# Altium integrated library TI Interface Serializer Deserializer.IntLib: 46 symbols (part 1 of 4)
Pins are listed as number, name and electrical type; pins without a type are passive.

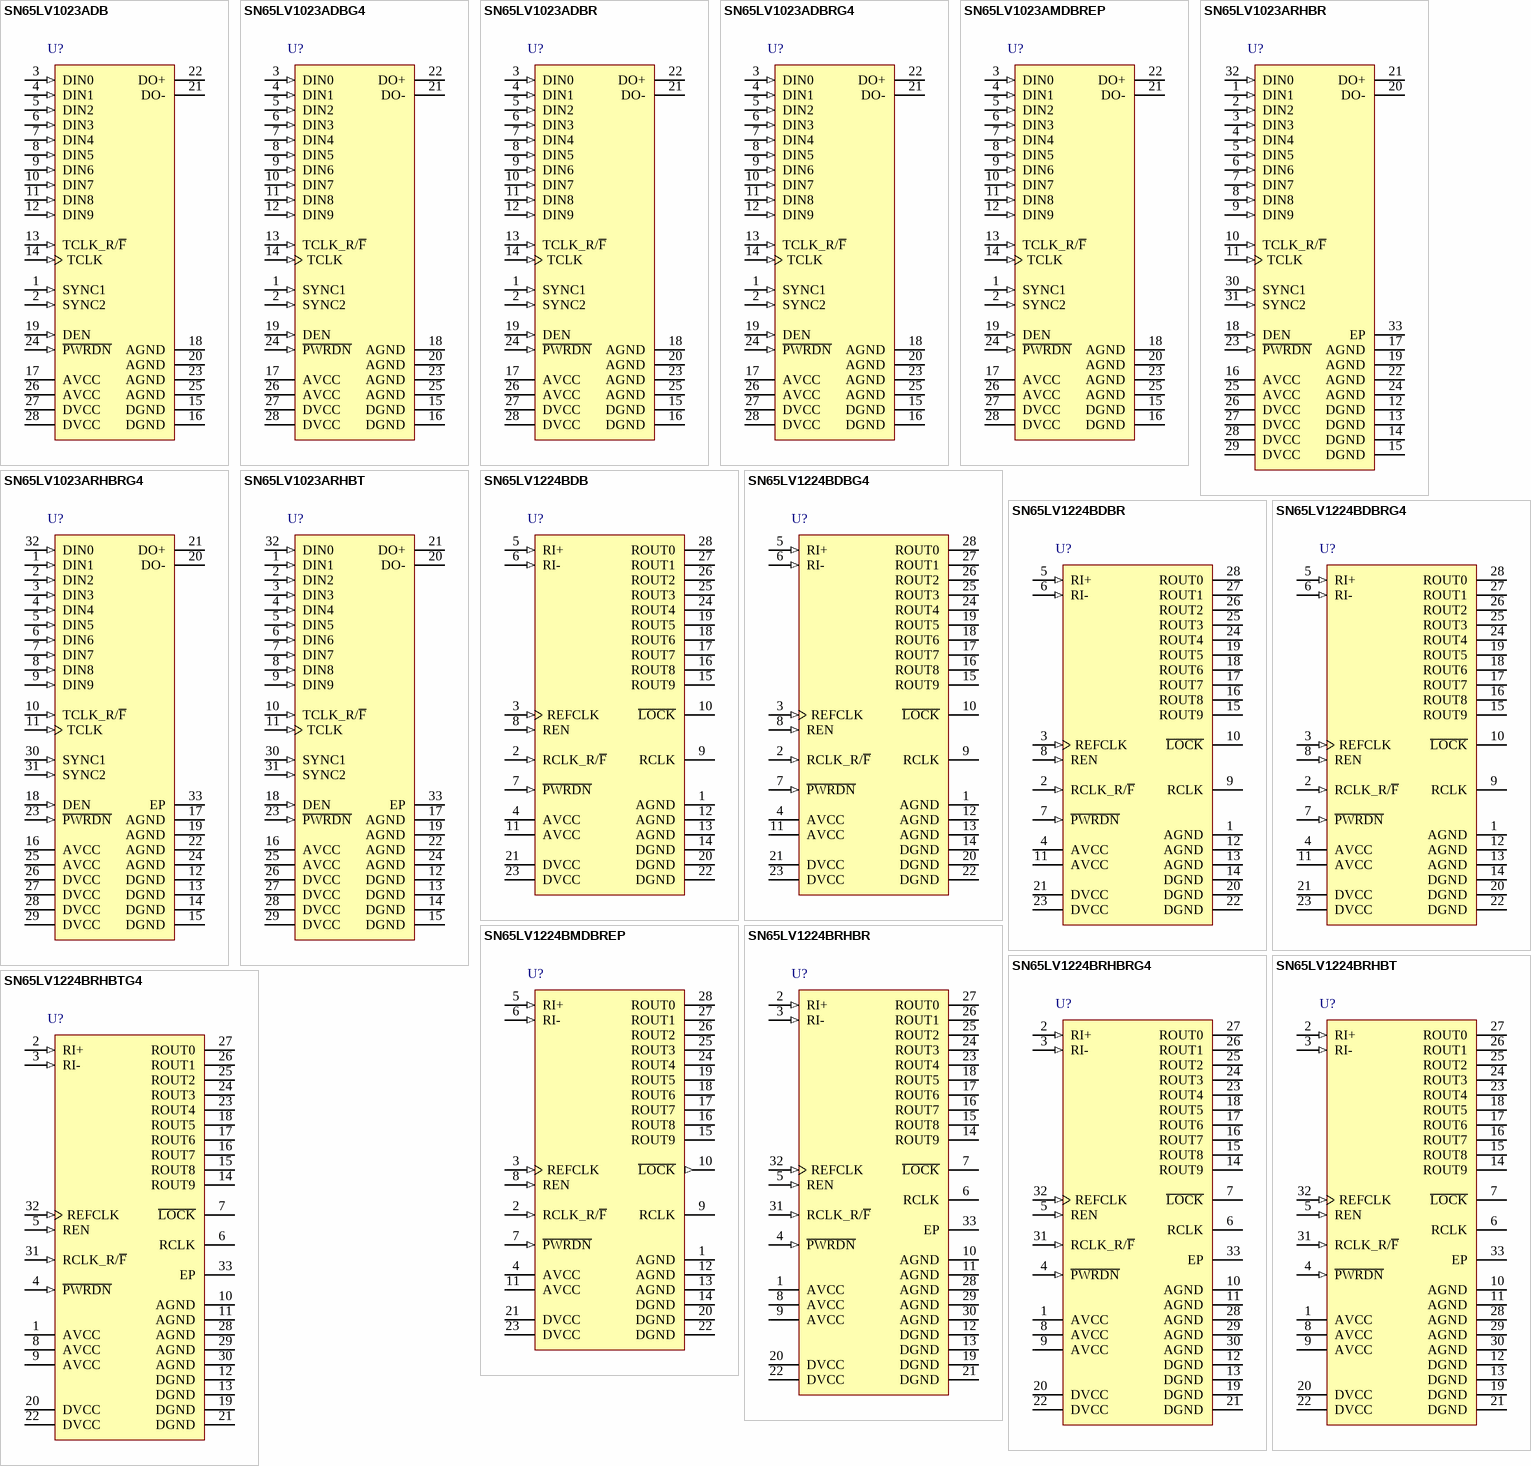
[diagram p0: symbols SN65LV1023ADB to SN65LV1224BRHBTG4]

## SN65LV1023ADB
designator U?
10:1 LVDS Serdes Transmitter 100 - 660 Mbps, 3.3 V, 660 MB/s Data Throughput, Receiver Channels, -40 to+ 85 degC, 28-pin SSOP (DB), Green (RoHS & no Sb/Br); Manufacturer: Texas Instruments; PartNumber: SN65LV1023ADB; Data Throughput(MB/s): 660; ICC(mA): 95; Number of Parallel Inputs: 10; PLL Frequency(MHz): 10 - 66; Receiver (Vth)(mV): 100; Serial Data Transmitter Channels: 1; SubFamily: LVDS Serdes (<100 MHz); Supply Voltage(s)(V): 3.3; DatasheetVersion: SLLS621E; PackageVersion: revE, Dec-2001; PackageReference: DB28; PackageDescription: 28-Pin Plastic Small Outline Package, 10.2 x 5.3 mm Body, 0.65 mm Pitch; Eco-Plan: Green (RoHS & no Sb/Br); Type of Line Circuit: LVDS; Mounting Technology: Surface Mount; Code_JEDEC: MO-150; ComponentLink1Description: Datasheet; ComponentLink1URL: http://www.ti.com/general/docs/lit/getliterature.tsp?genericPartNumber=SN65LV1023A&fileType=pdf; ComponentLink2Description: URL Link1; ComponentLink2URL: SamplesURL:http://www.ti.com/product/sn65lv1023a#samples
footprint DB28_N (SOP, 28-Leads, Body 10.2x5.3mm, Pitch 0.65mm, IPC Medium Density)
footprint DB28_L (SOP, 28-Leads, Body 10.2x5.3mm, Pitch 0.65mm, IPC High Density)
footprint DB28_M (SOP, 28-Leads, Body 10.2x5.3mm, Pitch 0.65mm, IPC Low Density)
pins: 1 SYNC1 (in) "LVTTL logic inputs SYNC1 and SYNC2 are ORed together. When at least one ofthe two pins is asserted high for 6 cycles of TCLK, the serializer initiates transmission of a minimum 1026 SYNC patterns. If after completion of the (See Datasheet)", 2 SYNC2 (in) "LVTTL logic inputs SYNC1 and SYNC2 are ORed together. When at least one ofthe two pins is asserted high for 6 cycles of TCLK, the serializer initiates transmission of a minimum 1026 SYNC patterns. If after completion of the (See Datasheet)", 3 DIN0 (in) "Parallel LVTTL data inputs", 4 DIN1 (in) "Parallel LVTTL data inputs", 5 DIN2 (in) "Parallel LVTTL data inputs", 6 DIN3 (in) "Parallel LVTTL data inputs", 7 DIN4 (in) "Parallel LVTTL data inputs", 8 DIN5 (in) "Parallel LVTTL data inputs", 9 DIN6 (in) "Parallel LVTTL data inputs", 10 DIN7 (in) "Parallel LVTTL data inputs", 11 DIN8 (in) "Parallel LVTTL data inputs", 12 DIN9 (in) "Parallel LVTTL data inputs", 13 TCLK_R/~{F} (in) "LVTTL logic input. Low selects a TCLK falling-edge data strobe; high selects a TCLK rising-edge data strobe.", 14 TCLK (in) "LVTTL-level reference clock input. The SN65LV1023A accepts a 10-MHz to 66-MHz clock. TCLK strobes parallel data into the input latch and provides a reference frequency to the PLL.", 15 DGND (power) "Digital circuit ground", 16 DGND (power) "Digital circuit ground", 17 AVCC (power) "Analog circuit power supply (PLL and analog circuits)", 18 AGND (power) "Analog circuit ground (PLL and analog circuits)", 19 DEN (in) "LVTTL logic input. Low puts the LVDS serial output into the high-impedance state. High enables serial data output.", 20 AGND (power) "Analog circuit ground (PLL and analog circuits)", 21 DO- (hiz) "Inverting LVDS differential output", 22 DO+ (hiz) "Noninverting LVDS differential output", 23 AGND (power) "Analog circuit ground (PLL and analog circuits)", 24 ~{PWRDN} (in) "LVTTL logic input. Asserting this pin low turns off the PLL and places the outputs into the high-impedance state, putting the device into a low-power mode.", 25 AGND (power) "Analog circuit ground (PLL and analog circuits)", 26 AVCC (power) "Analog circuit power supply (PLL and analog circuits)", 27 DVCC (power) "Digital circuit power supply", 28 DVCC (power) "Digital circuit power supply"

## SN65LV1023ADBG4
designator U?
10:1 LVDS Serdes Transmitter 100 - 660 Mbps, 3.3 V, 660 MB/s Data Throughput, -40 to +85 degC, 28-pin SSOP (DB), Green (RoHS & no Sb/Br); Manufacturer: Texas Instruments; PartNumber: SN65LV1023ADBG4; Data Throughput(MB/s): 660; ICC(mA): 95; Number of Parallel Inputs: 10; PLL Frequency(MHz): 10 - 66; Receiver (Vth)(mV): 100; Serial Data Transmitter Channels: 1; SubFamily: LVDS Serdes (<100 MHz); Supply Voltage(s)(V): 3.3; DatasheetVersion: SLLS621E; PackageVersion: revE, Dec-2001; PackageReference: DB28; PackageDescription: 28-Pin Plastic Small Outline Package, 10.2 x 5.3 mm Body, 0.65 mm Pitch; Eco-Plan: Green (RoHS & no Sb/Br); Type of Line Circuit: LVDS; Mounting Technology: Surface Mount; Code_JEDEC: MO-150; ComponentLink1Description: Datasheet; ComponentLink1URL: http://www.ti.com/general/docs/lit/getliterature.tsp?genericPartNumber=SN65LV1023A&fileType=pdf; ComponentLink2Description: URL Link1; ComponentLink2URL: SamplesURL:http://www.ti.com/product/sn65lv1023a#samples
footprint DB28_N (SOP, 28-Leads, Body 10.2x5.3mm, Pitch 0.65mm, IPC Medium Density)
footprint DB28_L (SOP, 28-Leads, Body 10.2x5.3mm, Pitch 0.65mm, IPC High Density)
footprint DB28_M (SOP, 28-Leads, Body 10.2x5.3mm, Pitch 0.65mm, IPC Low Density)
pins: 1 SYNC1 (in) "LVTTL logic inputs SYNC1 and SYNC2 are ORed together. When at least one ofthe two pins is asserted high for 6 cycles of TCLK, the serializer initiates transmission of a minimum 1026 SYNC patterns. If after completion of the (See Datasheet)", 2 SYNC2 (in) "LVTTL logic inputs SYNC1 and SYNC2 are ORed together. When at least one ofthe two pins is asserted high for 6 cycles of TCLK, the serializer initiates transmission of a minimum 1026 SYNC patterns. If after completion of the (See Datasheet)", 3 DIN0 (in) "Parallel LVTTL data inputs", 4 DIN1 (in) "Parallel LVTTL data inputs", 5 DIN2 (in) "Parallel LVTTL data inputs", 6 DIN3 (in) "Parallel LVTTL data inputs", 7 DIN4 (in) "Parallel LVTTL data inputs", 8 DIN5 (in) "Parallel LVTTL data inputs", 9 DIN6 (in) "Parallel LVTTL data inputs", 10 DIN7 (in) "Parallel LVTTL data inputs", 11 DIN8 (in) "Parallel LVTTL data inputs", 12 DIN9 (in) "Parallel LVTTL data inputs", 13 TCLK_R/~{F} (in) "LVTTL logic input. Low selects a TCLK falling-edge data strobe; high selects a TCLK rising-edge data strobe.", 14 TCLK (in) "LVTTL-level reference clock input. The SN65LV1023A accepts a 10-MHz to 66-MHz clock. TCLK strobes parallel data into the input latch and provides a reference frequency to the PLL.", 15 DGND (power) "Digital circuit ground", 16 DGND (power) "Digital circuit ground", 17 AVCC (power) "Analog circuit power supply (PLL and analog circuits)", 18 AGND (power) "Analog circuit ground (PLL and analog circuits)", 19 DEN (in) "LVTTL logic input. Low puts the LVDS serial output into the high-impedance state. High enables serial data output.", 20 AGND (power) "Analog circuit ground (PLL and analog circuits)", 21 DO- (hiz) "Inverting LVDS differential output", 22 DO+ (hiz) "Noninverting LVDS differential output", 23 AGND (power) "Analog circuit ground (PLL and analog circuits)", 24 ~{PWRDN} (in) "LVTTL logic input. Asserting this pin low turns off the PLL and places the outputs into the high-impedance state, putting the device into a low-power mode.", 25 AGND (power) "Analog circuit ground (PLL and analog circuits)", 26 AVCC (power) "Analog circuit power supply (PLL and analog circuits)", 27 DVCC (power) "Digital circuit power supply", 28 DVCC (power) "Digital circuit power supply"

## SN65LV1023ADBR
designator U?
10:1 LVDS Serdes Transmitter 100 - 660 Mbps, 3.3 V, 660 MB/s Data Throughput, -40 to +85 degC, 28-pin SSOP (DB), Green (RoHS & no Sb/Br); Manufacturer: Texas Instruments; PartNumber: SN65LV1023ADBR; Data Throughput(MB/s): 660; ICC(mA): 95; Number of Parallel Inputs: 10; PLL Frequency(MHz): 10 - 66; Receiver (Vth)(mV): 100; Serial Data Transmitter Channels: 1; SubFamily: LVDS Serdes (<100 MHz); Supply Voltage(s)(V): 3.3; DatasheetVersion: SLLS621E; PackageVersion: revE, Dec-2001; PackageReference: DB28; PackageDescription: 28-Pin Plastic Small Outline Package, 10.2 x 5.3 mm Body, 0.65 mm Pitch; Eco-Plan: Green (RoHS & no Sb/Br); Type of Line Circuit: LVDS; Mounting Technology: Surface Mount; Code_JEDEC: MO-150; ComponentLink1Description: Datasheet; ComponentLink1URL: http://www.ti.com/general/docs/lit/getliterature.tsp?genericPartNumber=SN65LV1023A&fileType=pdf; ComponentLink2Description: URL Link1; ComponentLink2URL: SamplesURL:http://www.ti.com/product/sn65lv1023a#samples
footprint DB28_N (SOP, 28-Leads, Body 10.2x5.3mm, Pitch 0.65mm, IPC Medium Density)
footprint DB28_L (SOP, 28-Leads, Body 10.2x5.3mm, Pitch 0.65mm, IPC High Density)
footprint DB28_M (SOP, 28-Leads, Body 10.2x5.3mm, Pitch 0.65mm, IPC Low Density)
pins: 1 SYNC1 (in) "LVTTL logic inputs SYNC1 and SYNC2 are ORed together. When at least one ofthe two pins is asserted high for 6 cycles of TCLK, the serializer initiates transmission of a minimum 1026 SYNC patterns. If after completion of the (See Datasheet)", 2 SYNC2 (in) "LVTTL logic inputs SYNC1 and SYNC2 are ORed together. When at least one ofthe two pins is asserted high for 6 cycles of TCLK, the serializer initiates transmission of a minimum 1026 SYNC patterns. If after completion of the (See Datasheet)", 3 DIN0 (in) "Parallel LVTTL data inputs", 4 DIN1 (in) "Parallel LVTTL data inputs", 5 DIN2 (in) "Parallel LVTTL data inputs", 6 DIN3 (in) "Parallel LVTTL data inputs", 7 DIN4 (in) "Parallel LVTTL data inputs", 8 DIN5 (in) "Parallel LVTTL data inputs", 9 DIN6 (in) "Parallel LVTTL data inputs", 10 DIN7 (in) "Parallel LVTTL data inputs", 11 DIN8 (in) "Parallel LVTTL data inputs", 12 DIN9 (in) "Parallel LVTTL data inputs", 13 TCLK_R/~{F} (in) "LVTTL logic input. Low selects a TCLK falling-edge data strobe; high selects a TCLK rising-edge data strobe.", 14 TCLK (in) "LVTTL-level reference clock input. The SN65LV1023A accepts a 10-MHz to 66-MHz clock. TCLK strobes parallel data into the input latch and provides a reference frequency to the PLL.", 15 DGND (power) "Digital circuit ground", 16 DGND (power) "Digital circuit ground", 17 AVCC (power) "Analog circuit power supply (PLL and analog circuits)", 18 AGND (power) "Analog circuit ground (PLL and analog circuits)", 19 DEN (in) "LVTTL logic input. Low puts the LVDS serial output into the high-impedance state. High enables serial data output.", 20 AGND (power) "Analog circuit ground (PLL and analog circuits)", 21 DO- (hiz) "Inverting LVDS differential output", 22 DO+ (hiz) "Noninverting LVDS differential output", 23 AGND (power) "Analog circuit ground (PLL and analog circuits)", 24 ~{PWRDN} (in) "LVTTL logic input. Asserting this pin low turns off the PLL and places the outputs into the high-impedance state, putting the device into a low-power mode.", 25 AGND (power) "Analog circuit ground (PLL and analog circuits)", 26 AVCC (power) "Analog circuit power supply (PLL and analog circuits)", 27 DVCC (power) "Digital circuit power supply", 28 DVCC (power) "Digital circuit power supply"

## SN65LV1023ADBRG4
designator U?
10:1 LVDS Serdes Transmitter 100 - 660 Mbps, 3.3 V, 660 MB/s Data Throughput, -40 to +85 degC, 28-pin SSOP (DB), Green (RoHS & no Sb/Br); Manufacturer: Texas Instruments; PartNumber: SN65LV1023ADBRG4; Data Throughput(MB/s): 660; ICC(mA): 95; Number of Parallel Inputs: 10; PLL Frequency(MHz): 10 - 66; Receiver (Vth)(mV): 100; Serial Data Transmitter Channels: 1; SubFamily: LVDS Serdes (<100 MHz); Supply Voltage(s)(V): 3.3; DatasheetVersion: SLLS621E; PackageVersion: revE, Dec-2001; PackageReference: DB28; PackageDescription: 28-Pin Plastic Small Outline Package, 10.2 x 5.3 mm Body, 0.65 mm Pitch; Eco-Plan: Green (RoHS & no Sb/Br); Type of Line Circuit: LVDS; Mounting Technology: Surface Mount; Code_JEDEC: MO-150; ComponentLink1Description: Datasheet; ComponentLink1URL: http://www.ti.com/general/docs/lit/getliterature.tsp?genericPartNumber=SN65LV1023A&fileType=pdf; ComponentLink2Description: URL Link1; ComponentLink2URL: SamplesURL:http://www.ti.com/product/sn65lv1023a#samples
footprint DB28_N (SOP, 28-Leads, Body 10.2x5.3mm, Pitch 0.65mm, IPC Medium Density)
footprint DB28_L (SOP, 28-Leads, Body 10.2x5.3mm, Pitch 0.65mm, IPC High Density)
footprint DB28_M (SOP, 28-Leads, Body 10.2x5.3mm, Pitch 0.65mm, IPC Low Density)
pins: 1 SYNC1 (in) "LVTTL logic inputs SYNC1 and SYNC2 are ORed together. When at least one ofthe two pins is asserted high for 6 cycles of TCLK, the serializer initiates transmission of a minimum 1026 SYNC patterns. If after completion of the (See Datasheet)", 2 SYNC2 (in) "LVTTL logic inputs SYNC1 and SYNC2 are ORed together. When at least one ofthe two pins is asserted high for 6 cycles of TCLK, the serializer initiates transmission of a minimum 1026 SYNC patterns. If after completion of the (See Datasheet)", 3 DIN0 (in) "Parallel LVTTL data inputs", 4 DIN1 (in) "Parallel LVTTL data inputs", 5 DIN2 (in) "Parallel LVTTL data inputs", 6 DIN3 (in) "Parallel LVTTL data inputs", 7 DIN4 (in) "Parallel LVTTL data inputs", 8 DIN5 (in) "Parallel LVTTL data inputs", 9 DIN6 (in) "Parallel LVTTL data inputs", 10 DIN7 (in) "Parallel LVTTL data inputs", 11 DIN8 (in) "Parallel LVTTL data inputs", 12 DIN9 (in) "Parallel LVTTL data inputs", 13 TCLK_R/~{F} (in) "LVTTL logic input. Low selects a TCLK falling-edge data strobe; high selects a TCLK rising-edge data strobe.", 14 TCLK (in) "LVTTL-level reference clock input. The SN65LV1023A accepts a 10-MHz to 66-MHz clock. TCLK strobes parallel data into the input latch and provides a reference frequency to the PLL.", 15 DGND (power) "Digital circuit ground", 16 DGND (power) "Digital circuit ground", 17 AVCC (power) "Analog circuit power supply (PLL and analog circuits)", 18 AGND (power) "Analog circuit ground (PLL and analog circuits)", 19 DEN (in) "LVTTL logic input. Low puts the LVDS serial output into the high-impedance state. High enables serial data output.", 20 AGND (power) "Analog circuit ground (PLL and analog circuits)", 21 DO- (hiz) "Inverting LVDS differential output", 22 DO+ (hiz) "Noninverting LVDS differential output", 23 AGND (power) "Analog circuit ground (PLL and analog circuits)", 24 ~{PWRDN} (in) "LVTTL logic input. Asserting this pin low turns off the PLL and places the outputs into the high-impedance state, putting the device into a low-power mode.", 25 AGND (power) "Analog circuit ground (PLL and analog circuits)", 26 AVCC (power) "Analog circuit power supply (PLL and analog circuits)", 27 DVCC (power) "Digital circuit power supply", 28 DVCC (power) "Digital circuit power supply"

## SN65LV1023AMDBREP
designator U?
Enhanced Product 10:1 Lvds Serdes Transmitter 100 - 660 Mbps, 660 MB/s Data Throughput, -55 to +125 degC, 28-pin SSOP (DB), Green (RoHS & no Sb/Br); Manufacturer: Texas Instruments; PartNumber: SN65LV1023AMDBREP; Data Throughput(MB/s): 660; ICC(mA): 95; Number of Parallel Inputs: 10; PLL Frequency(MHz): 10 - 66; Receiver (Vth)(mV): 50; SubFamily: LVDS Serdes (<100 MHz); DatasheetVersion: SGLS358; PackageVersion: revE, Dec-2001; PackageReference: DB28; PackageDescription: 28-Pin Plastic Small Outline Package, 10.2 x 5.3 mm Body, 0.65 mm Pitch; Eco-Plan: Green (RoHS & no Sb/Br); Number of Parallel Outputs: 10; Type of Line Circuit: LVDS; Mounting Technology: Surface Mount; Code_JEDEC: MO-150; ComponentLink1Description: Datasheet; ComponentLink1URL: http://www.ti.com/general/docs/lit/getliterature.tsp?genericPartNumber=SN65LV1023A-EP&fileType=pdf; ComponentLink2Description: URL Link1; ComponentLink2URL: SamplesURL:http://www.ti.com/product/sn65lv1023a-ep#samples
footprint DB28_N (SOP, 28-Leads, Body 10.2x5.3mm, Pitch 0.65mm, IPC Medium Density)
footprint DB28_L (SOP, 28-Leads, Body 10.2x5.3mm, Pitch 0.65mm, IPC High Density)
footprint DB28_M (SOP, 28-Leads, Body 10.2x5.3mm, Pitch 0.65mm, IPC Low Density)
pins: 1 SYNC1 (in) "LVTTL logic inputs SYNC1 and SYNC2 are ORed together. When at least one of the two pins is asserted high for 6 cycles of TCLK, the serializer initiates transmission of a minimum 1026 SYNC patterns.If after completion of the (See Datasheet)", 2 SYNC2 (in) "LVTTL logic inputs SYNC1 and SYNC2 are ORed together. When at least one of the two pins is asserted high for 6 cycles of TCLK, the serializer initiates transmission of a minimum 1026 SYNC patterns.If after completion of the (See Datasheet)", 3 DIN0 (in) "Parallel LVTTL data input.", 4 DIN1 (in) "Parallel LVTTL data input.", 5 DIN2 (in) "Parallel LVTTL data input.", 6 DIN3 (in) "Parallel LVTTL data input.", 7 DIN4 (in) "Parallel LVTTL data input.", 8 DIN5 (in) "Parallel LVTTL data input.", 9 DIN6 (in) "Parallel LVTTL data input.", 10 DIN7 (in) "Parallel LVTTL data input.", 11 DIN8 (in) "Parallel LVTTL data input.", 12 DIN9 (in) "Parallel LVTTL data input.", 13 TCLK_R/~{F} (in) "LVTTL logic inputs. Low selects a TCLK falling-edge data strobe; high selects a TCLK rising-edge data strobe.", 14 TCLK (in) "LVTTL-level reference clock input. The SN65LV1023A accepts a 10-MHz to 66-MHz clock. TCLK strobes parallel data into the input latch and provides a reference frequency to the PLL.", 15 DGND (power) "Digital circuit ground", 16 DGND (power) "Digital circuit ground", 17 AVCC (power) "Analog circuit power supply (PLL and analog circuits)", 18 AGND (power) "Analog circuit ground (PLL and analog circuits)", 19 DEN (in) "LVTTL logic input.Low puts the LVDS serial output into the high-impedance state.High enables serial data output.", 20 AGND (power) "Analog circuit ground (PLL and analog circuits)", 21 DO- (hiz) "Inverting LVDS differential output", 22 DO+ (hiz) "Noninverting LVDS differential output", 23 AGND (power) "Analog circuit ground (PLL and analog circuits)", 24 ~{PWRDN} (in) "LVTTL logic input.Asserting this pin low turns off the PLL and places the outputs into the high-impedance state,putting the device into a low-power mode.", 25 AGND (power) "Analog circuit ground (PLL and analog circuits)", 26 AVCC (power) "Analog circuit power supply (PLL and analog circuits)", 27 DVCC (power) "Digital circuit power supply", 28 DVCC (power) "Digital circuit power supply"

## SN65LV1023ARHBR
designator U?
600 Mbps 10:1 LVDS Serdes Transmitter 100 - 660 Mbps, 3.3 V, -40 to +85 degC, 32-pin QFN (RHB), Green (RoHS & no Sb/Br); Manufacturer: Texas Instruments; PartNumber: SN65LV1023ARHBR; Data Throughput(MB/s): 660; ICC(mA): 95; Number of Parallel Inputs: 10; PLL Frequency(MHz): 10 - 66; Receiver (Vth)(mV): 100; Serial Data Transmitter Channels: 1; SubFamily: LVDS Serdes (<100 MHz); Supply Voltage(s)(V): 3.3; DatasheetVersion: SLLS621E; PackageVersion: revD, Jun-2011; PackageReference: RHB32-3450X3450TP; PackageDescription: 32-Pin Plastic Quad Flat No-Lead, 5 x 5 mm Body, 0.5 mm Pitch, 3.45 x 3.45 mm Exposed Pad; Eco-Plan: Green (RoHS & no Sb/Br); Type of Line Circuit: LVDS; Mounting Technology: Surface Mount; Code_JEDEC: MO-220; ComponentLink1Description: Datasheet; ComponentLink1URL: http://www.ti.com/general/docs/lit/getliterature.tsp?genericPartNumber=SN65LV1023A&fileType=pdf; ComponentLink2Description: URL Link1; ComponentLink2URL: SamplesURL:http://www.ti.com/product/sn65lv1023a#samples
footprint RHB32-3450X3450TP (QFN, 32-Leads, Body 5x5mm, Pitch 0.5mm, Thermal Pad 3.45x3.45mm, TI Recommended)
pins: 1 DIN1 (in) "Parallel LVTTL data inputs", 2 DIN2 (in) "Parallel LVTTL data inputs", 3 DIN3 (in) "Parallel LVTTL data inputs", 4 DIN4 (in) "Parallel LVTTL data inputs", 5 DIN5 (in) "Parallel LVTTL data inputs", 6 DIN6 (in) "Parallel LVTTL data inputs", 7 DIN7 (in) "Parallel LVTTL data inputs", 8 DIN8 (in) "Parallel LVTTL data inputs", 9 DIN9 (in) "Parallel LVTTL data inputs", 10 TCLK_R/~{F} (in) "LVTTL logic input. Low selects a TCLK falling-edge data strobe; high selects a TCLK rising-edge data strobe.", 11 TCLK (in) "LVTTL-level reference clock input. The SN65LV1023A accepts a 10-MHz to 66-MHz clock. TCLK strobes parallel data into the input latch and provides a reference frequency to the PLL.", 12 DGND (power) "Digital circuit ground", 13 DGND (power) "Digital circuit ground", 14 DGND (power) "Digital circuit ground", 15 DGND (power) "Digital circuit ground", 16 AVCC (power) "Analog circuit power supply (PLL and analog circuits)", 17 AGND (power) "Analog circuit ground (PLL and analog circuits)", 18 DEN (in) "LVTTL logic input. Low puts the LVDS serial output into the high-impedance state. High enables serial data output.", 19 AGND (power) "Analog circuit ground (PLL and analog circuits)", 20 DO- (hiz) "Inverting LVDS differential output", 21 DO+ (hiz) "Noninverting LVDS differential output", 22 AGND (power) "Analog circuit ground (PLL and analog circuits)", 23 ~{PWRDN} (in) "LVTTL logic input. Asserting this pin low turns off the PLL and places the outputs into the high-impedance state, putting the device into a low-power mode.", 24 AGND (power) "Analog circuit ground (PLL and analog circuits)", 25 AVCC (power) "Analog circuit power supply (PLL and analog circuits)", 26 DVCC (power) "Digital circuit power supply", 27 DVCC (power) "Digital circuit power supply", 28 DVCC (power) "Digital circuit power supply", 29 DVCC (power) "Digital circuit power supply", 30 SYNC1 (in) "LVTTL logic inputs SYNC1 and SYNC2 are ORed together. When at least one ofthe two pins is asserted high for 6 cycles of TCLK, the serializer initiates transmission of a minimum 1026 SYNC patterns. If after completion of the (See Datasheet)", 31 SYNC2 (in) "LVTTL logic inputs SYNC1 and SYNC2 are ORed together. When at least one ofthe two pins is asserted high for 6 cycles of TCLK, the serializer initiates transmission of a minimum 1026 SYNC patterns. If after completion of the (See Datasheet)", 32 DIN0 (in) "Parallel LVTTL data inputs", 33 EP "Exposed Thermal Pad"

## SN65LV1023ARHBRG4
designator U?
10:1 LVDS Serdes Transmitter 100 - 660 Mbps, 3.3 V, 660 MB/s Data Throughput, -40 to +85 degC, 32-pin QFN (RHB), Green (RoHS & no Sb/Br); Manufacturer: Texas Instruments; PartNumber: SN65LV1023ARHBRG4; Data Throughput(MB/s): 660; ICC(mA): 95; Number of Parallel Inputs: 10; PLL Frequency(MHz): 10 - 66; Receiver (Vth)(mV): 100; Serial Data Transmitter Channels: 1; SubFamily: LVDS Serdes (<100 MHz); Supply Voltage(s)(V): 3.3; DatasheetVersion: SLLS621E; PackageVersion: revD, Jun-2011; PackageReference: RHB32-3450X3450TP; PackageDescription: 32-Pin Plastic Quad Flat No-Lead, 5 x 5 mm Body, 0.5 mm Pitch, 3.45 x 3.45 mm Exposed Pad; Eco-Plan: Green (RoHS & no Sb/Br); Type of Line Circuit: LVDS; Mounting Technology: Surface Mount; Code_JEDEC: MO-220; ComponentLink1Description: Datasheet; ComponentLink1URL: http://www.ti.com/general/docs/lit/getliterature.tsp?genericPartNumber=SN65LV1023A&fileType=pdf; ComponentLink2Description: URL Link1; ComponentLink2URL: SamplesURL:http://www.ti.com/product/sn65lv1023a#samples
footprint RHB32-3450X3450TP (QFN, 32-Leads, Body 5x5mm, Pitch 0.5mm, Thermal Pad 3.45x3.45mm, TI Recommended)
pins: 1 DIN1 (in) "Parallel LVTTL data inputs", 2 DIN2 (in) "Parallel LVTTL data inputs", 3 DIN3 (in) "Parallel LVTTL data inputs", 4 DIN4 (in) "Parallel LVTTL data inputs", 5 DIN5 (in) "Parallel LVTTL data inputs", 6 DIN6 (in) "Parallel LVTTL data inputs", 7 DIN7 (in) "Parallel LVTTL data inputs", 8 DIN8 (in) "Parallel LVTTL data inputs", 9 DIN9 (in) "Parallel LVTTL data inputs", 10 TCLK_R/~{F} (in) "LVTTL logic input. Low selects a TCLK falling-edge data strobe; high selects a TCLK rising-edge data strobe.", 11 TCLK (in) "LVTTL-level reference clock input. The SN65LV1023A accepts a 10-MHz to 66-MHz clock. TCLK strobes parallel data into the input latch and provides a reference frequency to the PLL.", 12 DGND (power) "Digital circuit ground", 13 DGND (power) "Digital circuit ground", 14 DGND (power) "Digital circuit ground", 15 DGND (power) "Digital circuit ground", 16 AVCC (power) "Analog circuit power supply (PLL and analog circuits)", 17 AGND (power) "Analog circuit ground (PLL and analog circuits)", 18 DEN (in) "LVTTL logic input. Low puts the LVDS serial output into the high-impedance state. High enables serial data output.", 19 AGND (power) "Analog circuit ground (PLL and analog circuits)", 20 DO- (hiz) "Inverting LVDS differential output", 21 DO+ (hiz) "Noninverting LVDS differential output", 22 AGND (power) "Analog circuit ground (PLL and analog circuits)", 23 ~{PWRDN} (in) "LVTTL logic input. Asserting this pin low turns off the PLL and places the outputs into the high-impedance state, putting the device into a low-power mode.", 24 AGND (power) "Analog circuit ground (PLL and analog circuits)", 25 AVCC (power) "Analog circuit power supply (PLL and analog circuits)", 26 DVCC (power) "Digital circuit power supply", 27 DVCC (power) "Digital circuit power supply", 28 DVCC (power) "Digital circuit power supply", 29 DVCC (power) "Digital circuit power supply", 30 SYNC1 (in) "LVTTL logic inputs SYNC1 and SYNC2 are ORed together. When at least one ofthe two pins is asserted high for 6 cycles of TCLK, the serializer initiates transmission of a minimum 1026 SYNC patterns. If after completion of the (See Datasheet)", 31 SYNC2 (in) "LVTTL logic inputs SYNC1 and SYNC2 are ORed together. When at least one ofthe two pins is asserted high for 6 cycles of TCLK, the serializer initiates transmission of a minimum 1026 SYNC patterns. If after completion of the (See Datasheet)", 32 DIN0 (in) "Parallel LVTTL data inputs", 33 EP "Exposed Thermal Pad"

## SN65LV1023ARHBT
designator U?
10:1 LVDS Serdes Transmitter 100 - 660 Mbps, 3.3 V, 660 MB/s Data Throughput, -40 to +85 degC, 32-pin QFN (RHB), Green (RoHS & no Sb/Br); Manufacturer: Texas Instruments; PartNumber: SN65LV1023ARHBT; Data Throughput(MB/s): 660; ICC(mA): 95; Number of Parallel Inputs: 10; PLL Frequency(MHz): 10 - 66; Receiver (Vth)(mV): 100; Serial Data Transmitter Channels: 1; SubFamily: LVDS Serdes (<100 MHz); Supply Voltage(s)(V): 3.3; DatasheetVersion: SLLS621E; PackageVersion: revD, Jun-2011; PackageReference: RHB32-3450X3450TP; PackageDescription: 32-Pin Plastic Quad Flat No-Lead, 5 x 5 mm Body, 0.5 mm Pitch, 3.45 x 3.45 mm Exposed Pad; Eco-Plan: Green (RoHS & no Sb/Br); Type of Line Circuit: LVDS; Mounting Technology: Surface Mount; Code_JEDEC: MO-220; ComponentLink1Description: Datasheet; ComponentLink1URL: http://www.ti.com/general/docs/lit/getliterature.tsp?genericPartNumber=SN65LV1023A&fileType=pdf; ComponentLink2Description: URL Link1; ComponentLink2URL: SamplesURL:http://www.ti.com/product/sn65lv1023a#samples
footprint RHB32-3450X3450TP (QFN, 32-Leads, Body 5x5mm, Pitch 0.5mm, Thermal Pad 3.45x3.45mm, TI Recommended)
pins: 1 DIN1 (in) "Parallel LVTTL data inputs", 2 DIN2 (in) "Parallel LVTTL data inputs", 3 DIN3 (in) "Parallel LVTTL data inputs", 4 DIN4 (in) "Parallel LVTTL data inputs", 5 DIN5 (in) "Parallel LVTTL data inputs", 6 DIN6 (in) "Parallel LVTTL data inputs", 7 DIN7 (in) "Parallel LVTTL data inputs", 8 DIN8 (in) "Parallel LVTTL data inputs", 9 DIN9 (in) "Parallel LVTTL data inputs", 10 TCLK_R/~{F} (in) "LVTTL logic input. Low selects a TCLK falling-edge data strobe; high selects a TCLK rising-edge data strobe.", 11 TCLK (in) "LVTTL-level reference clock input. The SN65LV1023A accepts a 10-MHz to 66-MHz clock. TCLK strobes parallel data into the input latch and provides a reference frequency to the PLL.", 12 DGND (power) "Digital circuit ground", 13 DGND (power) "Digital circuit ground", 14 DGND (power) "Digital circuit ground", 15 DGND (power) "Digital circuit ground", 16 AVCC (power) "Analog circuit power supply (PLL and analog circuits)", 17 AGND (power) "Analog circuit ground (PLL and analog circuits)", 18 DEN (in) "LVTTL logic input. Low puts the LVDS serial output into the high-impedance state. High enables serial data output.", 19 AGND (power) "Analog circuit ground (PLL and analog circuits)", 20 DO- (hiz) "Inverting LVDS differential output", 21 DO+ (hiz) "Noninverting LVDS differential output", 22 AGND (power) "Analog circuit ground (PLL and analog circuits)", 23 ~{PWRDN} (in) "LVTTL logic input. Asserting this pin low turns off the PLL and places the outputs into the high-impedance state, putting the device into a low-power mode.", 24 AGND (power) "Analog circuit ground (PLL and analog circuits)", 25 AVCC (power) "Analog circuit power supply (PLL and analog circuits)", 26 DVCC (power) "Digital circuit power supply", 27 DVCC (power) "Digital circuit power supply", 28 DVCC (power) "Digital circuit power supply", 29 DVCC (power) "Digital circuit power supply", 30 SYNC1 (in) "LVTTL logic inputs SYNC1 and SYNC2 are ORed together. When at least one ofthe two pins is asserted high for 6 cycles of TCLK, the serializer initiates transmission of a minimum 1026 SYNC patterns. If after completion of the (See Datasheet)", 31 SYNC2 (in) "LVTTL logic inputs SYNC1 and SYNC2 are ORed together. When at least one ofthe two pins is asserted high for 6 cycles of TCLK, the serializer initiates transmission of a minimum 1026 SYNC patterns. If after completion of the (See Datasheet)", 32 DIN0 (in) "Parallel LVTTL data inputs", 33 EP "Exposed Thermal Pad"

## SN65LV1224BDB
designator U?
1:10 LVDS Serdes Receiver 100 - 660 Mbps, 3.3 V, 660 MB/s Data Throughput, 2 Receiver Channels, -40 to +85 degC, 28-pin SSOP (DB), Green (RoHS & no Sb/Br); Manufacturer: Texas Instruments; PartNumber: SN65LV1224BDB; Data Throughput(MB/s): 660; ICC(mA): 80; Number of Parallel Outputs: 10; PLL Frequency(MHz): 10 - 66; Receiver (Vth)(mV): 50; Receiver tpd(ns): 8; SerDes: TRUE; Serial Data Receiver Channels: 2; SubFamily: LVDS Serdes (<100 MHz); Supply Voltage(s)(V): 3.3; DatasheetVersion: SLLS621E; PackageVersion: revE, Dec-2001; PackageReference: DB28; PackageDescription: 28-Pin Plastic Small Outline Package, 10.2 x 5.3 mm Body, 0.65 mm Pitch; Eco-Plan: Green (RoHS & no Sb/Br); Type of Line Circuit: LVDS; Mounting Technology: Surface Mount; Code_JEDEC: MO-150; ComponentLink1Description: Datasheet; ComponentLink1URL: http://www.ti.com/general/docs/lit/getliterature.tsp?genericPartNumber=SN65LV1224B&fileType=pdf; ComponentLink2Description: URL Link1; ComponentLink2URL: SamplesURL:http://www.ti.com/product/sn65lv1224b#samples
footprint DB28_N (SOP, 28-Leads, Body 10.2x5.3mm, Pitch 0.65mm, IPC Medium Density)
footprint DB28_L (SOP, 28-Leads, Body 10.2x5.3mm, Pitch 0.65mm, IPC High Density)
footprint DB28_M (SOP, 28-Leads, Body 10.2x5.3mm, Pitch 0.65mm, IPC Low Density)
pins: 1 AGND (power) "Analog circuit ground (PLL and analog circuits)", 2 RCLK_R/~{F} (in) "LVTTL logic input.Low selects an RCLK falling-edge data strobe; high selects an RCLK rising-edge data strobe.", 3 REFCLK (in) "LVTTL logic input.Use this pin to supply a REFCLK signal for the internal PLL frequency.", 4 AVCC (power) "Analog circuit power supply (PLL and analog circuits)", 5 RI+ (in) "Serial data input. Noninverting LVDS differential input", 6 RI- (in) "Serial data input. Inverting LVDS differential input", 7 ~{PWRDN} (in) "LVTTL logic input. Asserting this pin low turns off the PLL and places outputs into a high-impedance state,putting the device into a low-power mode.To initiate power down,this pin is held low for a minimum of 16 nd.As long (See Datasheet)", 8 REN (in) "LVTTL logic input. Low places ROUT0-ROUT9 and RCLK in the high-impedance state.", 9 RCLK (hiz) "LVTTL level output recovered clock. Use RCLK to strobe ROUTx.", 10 ~{LOCK} (hiz) "LVTTL level output.L\O\C\K\ goes low when the deserializer PLL locks onto the embedded clock edge.", 11 AVCC (power) "Analog circuit power supply (PLL and analog circuits)", 12 AGND (power) "Analog circuit ground (PLL and analog circuits)", 13 AGND (power) "Analog circuit ground (PLL and analog circuits)", 14 DGND (power) "Digital circuit ground", 15 ROUT9 (hiz) "Parallel LVTTL data outputs", 16 ROUT8 (hiz) "Parallel LVTTL data outputs", 17 ROUT7 (hiz) "Parallel LVTTL data outputs", 18 ROUT6 (hiz) "Parallel LVTTL data outputs", 19 ROUT5 (hiz) "Parallel LVTTL data outputs", 20 DGND (power) "Digital circuit ground", 21 DVCC (power) "Digital circuit power supply", 22 DGND (power) "Digital circuit ground", 23 DVCC (power) "Digital circuit power supply", 24 ROUT4 (hiz) "Parallel LVTTL data outputs", 25 ROUT3 (hiz) "Parallel LVTTL data outputs", 26 ROUT2 (hiz) "Parallel LVTTL data outputs", 27 ROUT1 (hiz) "Parallel LVTTL data outputs", 28 ROUT0 (hiz) "Parallel LVTTL data outputs"

## SN65LV1224BDBG4
designator U?
1:10 LVDS Serdes Receiver 100 - 660 Mbps, 3.3 V, 660 MB/s Data Throughput, 2 Receiver Channels, -40 to +85 degC, 28-pin SSOP (DB), Green (RoHS & no Sb/Br); Manufacturer: Texas Instruments; PartNumber: SN65LV1224BDBG4; Data Throughput(MB/s): 660; ICC(mA): 80; Number of Parallel Outputs: 10; PLL Frequency(MHz): 10 - 66; Receiver (Vth)(mV): 50; Receiver tpd(ns): 8; SerDes: TRUE; Serial Data Receiver Channels: 2; SubFamily: LVDS Serdes (<100 MHz); Supply Voltage(s)(V): 3.3; DatasheetVersion: SLLS621E; PackageVersion: revE, Dec-2001; PackageReference: DB28; PackageDescription: 28-Pin Plastic Small Outline Package, 10.2 x 5.3 mm Body, 0.65 mm Pitch; Eco-Plan: Green (RoHS & no Sb/Br); Type of Line Circuit: LVDS; Mounting Technology: Surface Mount; Code_JEDEC: MO-150; ComponentLink1Description: Datasheet; ComponentLink1URL: http://www.ti.com/general/docs/lit/getliterature.tsp?genericPartNumber=SN65LV1224B&fileType=pdf; ComponentLink2Description: URL Link1; ComponentLink2URL: SamplesURL:http://www.ti.com/product/sn65lv1224b#samples
footprint DB28_N (SOP, 28-Leads, Body 10.2x5.3mm, Pitch 0.65mm, IPC Medium Density)
footprint DB28_L (SOP, 28-Leads, Body 10.2x5.3mm, Pitch 0.65mm, IPC High Density)
footprint DB28_M (SOP, 28-Leads, Body 10.2x5.3mm, Pitch 0.65mm, IPC Low Density)
pins: 1 AGND (power) "Analog circuit ground (PLL and analog circuits)", 2 RCLK_R/~{F} (in) "LVTTL logic input.Low selects an RCLK falling-edge data strobe; high selects an RCLK rising-edge data strobe.", 3 REFCLK (in) "LVTTL logic input.Use this pin to supply a REFCLK signal for the internal PLL frequency.", 4 AVCC (power) "Analog circuit power supply (PLL and analog circuits)", 5 RI+ (in) "Serial data input. Noninverting LVDS differential input", 6 RI- (in) "Serial data input. Inverting LVDS differential input", 7 ~{PWRDN} (in) "LVTTL logic input. Asserting this pin low turns off the PLL and places outputs into a high-impedance state,putting the device into a low-power mode.To initiate power down,this pin is held low for a minimum of 16 nd.As long (See Datasheet)", 8 REN (in) "LVTTL logic input. Low places ROUT0-ROUT9 and RCLK in the high-impedance state.", 9 RCLK (hiz) "LVTTL level output recovered clock. Use RCLK to strobe ROUTx.", 10 ~{LOCK} (hiz) "LVTTL level output.L\O\C\K\ goes low when the deserializer PLL locks onto the embedded clock edge.", 11 AVCC (power) "Analog circuit power supply (PLL and analog circuits)", 12 AGND (power) "Analog circuit ground (PLL and analog circuits)", 13 AGND (power) "Analog circuit ground (PLL and analog circuits)", 14 DGND (power) "Digital circuit ground", 15 ROUT9 (hiz) "Parallel LVTTL data outputs", 16 ROUT8 (hiz) "Parallel LVTTL data outputs", 17 ROUT7 (hiz) "Parallel LVTTL data outputs", 18 ROUT6 (hiz) "Parallel LVTTL data outputs", 19 ROUT5 (hiz) "Parallel LVTTL data outputs", 20 DGND (power) "Digital circuit ground", 21 DVCC (power) "Digital circuit power supply", 22 DGND (power) "Digital circuit ground", 23 DVCC (power) "Digital circuit power supply", 24 ROUT4 (hiz) "Parallel LVTTL data outputs", 25 ROUT3 (hiz) "Parallel LVTTL data outputs", 26 ROUT2 (hiz) "Parallel LVTTL data outputs", 27 ROUT1 (hiz) "Parallel LVTTL data outputs", 28 ROUT0 (hiz) "Parallel LVTTL data outputs"

## SN65LV1224BDBR
designator U?
1:10 LVDS Serdes Receiver with 100 - 660 Mbps, 3.3 V, 660 MB/S Data Throughput, 2 Receiver Channels, -40 to +85 degC, 28-pin SSOP (DB), Green (RoHS & no Sb/Br); Manufacturer: Texas Instruments; PartNumber: SN65LV1224BDBR; Data Throughput(MB/s): 660; ICC(mA): 80; Number of Parallel Outputs: 10; PLL Frequency(MHz): 10 - 66; Receiver (Vth)(mV): 50; Receiver tpd(ns): 8; SerDes: TRUE; Serial Data Receiver Channels: 2; SubFamily: LVDS Serdes (<100 MHz); Supply Voltage(s)(V): 3.3; DatasheetVersion: SLLS621E; PackageVersion: revE, Dec-2001; PackageReference: DB28; PackageDescription: 28-Pin Plastic Small Outline Package, 10.2 x 5.3 mm Body, 0.65 mm Pitch; Eco-Plan: Green (RoHS & no Sb/Br); Type of Line Circuit: LVDS; Mounting Technology: Surface Mount; Code_JEDEC: MO-150; ComponentLink1Description: Datasheet; ComponentLink1URL: http://www.ti.com/general/docs/lit/getliterature.tsp?genericPartNumber=SN65LV1224B&fileType=pdf; ComponentLink2Description: URL Link1; ComponentLink2URL: SamplesURL:http://www.ti.com/product/sn65lv1224b#samples
footprint DB28_N (SOP, 28-Leads, Body 10.2x5.3mm, Pitch 0.65mm, IPC Medium Density)
footprint DB28_L (SOP, 28-Leads, Body 10.2x5.3mm, Pitch 0.65mm, IPC High Density)
footprint DB28_M (SOP, 28-Leads, Body 10.2x5.3mm, Pitch 0.65mm, IPC Low Density)
pins: 1 AGND (power) "Analog circuit ground (PLL and analog circuits)", 2 RCLK_R/~{F} (in) "LVTTL logic input.Low selects an RCLK falling-edge data strobe; high selects an RCLK rising-edge data strobe.", 3 REFCLK (in) "LVTTL logic input.Use this pin to supply a REFCLK signal for the internal PLL frequency.", 4 AVCC (power) "Analog circuit power supply (PLL and analog circuits)", 5 RI+ (in) "Serial data input. Noninverting LVDS differential input", 6 RI- (in) "Serial data input. Inverting LVDS differential input", 7 ~{PWRDN} (in) "LVTTL logic input. Asserting this pin low turns off the PLL and places outputs into a high-impedance state,putting the device into a low-power mode.To initiate power down,this pin is held low for a minimum of 16 nd.As long (See Datasheet)", 8 REN (in) "LVTTL logic input. Low places ROUT0-ROUT9 and RCLK in the high-impedance state.", 9 RCLK (hiz) "LVTTL level output recovered clock. Use RCLK to strobe ROUTx.", 10 ~{LOCK} (hiz) "LVTTL level output.L\O\C\K\ goes low when the deserializer PLL locks onto the embedded clock edge.", 11 AVCC (power) "Analog circuit power supply (PLL and analog circuits)", 12 AGND (power) "Analog circuit ground (PLL and analog circuits)", 13 AGND (power) "Analog circuit ground (PLL and analog circuits)", 14 DGND (power) "Digital circuit ground", 15 ROUT9 (hiz) "Parallel LVTTL data outputs", 16 ROUT8 (hiz) "Parallel LVTTL data outputs", 17 ROUT7 (hiz) "Parallel LVTTL data outputs", 18 ROUT6 (hiz) "Parallel LVTTL data outputs", 19 ROUT5 (hiz) "Parallel LVTTL data outputs", 20 DGND (power) "Digital circuit ground", 21 DVCC (power) "Digital circuit power supply", 22 DGND (power) "Digital circuit ground", 23 DVCC (power) "Digital circuit power supply", 24 ROUT4 (hiz) "Parallel LVTTL data outputs", 25 ROUT3 (hiz) "Parallel LVTTL data outputs", 26 ROUT2 (hiz) "Parallel LVTTL data outputs", 27 ROUT1 (hiz) "Parallel LVTTL data outputs", 28 ROUT0 (hiz) "Parallel LVTTL data outputs"

## SN65LV1224BDBRG4
designator U?
1:10 LVDS Serdes Receiver 100 - 660 Mbps, 3.3 V, 660 MB/s Data Throughput, 2 Receiver Channels, -40 to +85 degC, 28-pin SSOP (DB), Green (RoHS & no Sb/Br); Manufacturer: Texas Instruments; PartNumber: SN65LV1224BDBRG4; Data Throughput(MB/s): 660; ICC(mA): 80; Number of Parallel Outputs: 10; PLL Frequency(MHz): 10 - 66; Receiver (Vth)(mV): 50; Receiver tpd(ns): 8; SerDes: TRUE; Serial Data Receiver Channels: 2; SubFamily: LVDS Serdes (<100 MHz); Supply Voltage(s)(V): 3.3; DatasheetVersion: SLLS621E; PackageVersion: revE, Dec-2001; PackageReference: DB28; PackageDescription: 28-Pin Plastic Small Outline Package, 10.2 x 5.3 mm Body, 0.65 mm Pitch; Eco-Plan: Green (RoHS & no Sb/Br); Type of Line Circuit: LVDS; Mounting Technology: Surface Mount; Code_JEDEC: MO-150; ComponentLink1Description: Datasheet; ComponentLink1URL: http://www.ti.com/general/docs/lit/getliterature.tsp?genericPartNumber=SN65LV1224B&fileType=pdf; ComponentLink2Description: URL Link1; ComponentLink2URL: SamplesURL:http://www.ti.com/product/sn65lv1224b#samples
footprint DB28_N (SOP, 28-Leads, Body 10.2x5.3mm, Pitch 0.65mm, IPC Medium Density)
footprint DB28_L (SOP, 28-Leads, Body 10.2x5.3mm, Pitch 0.65mm, IPC High Density)
footprint DB28_M (SOP, 28-Leads, Body 10.2x5.3mm, Pitch 0.65mm, IPC Low Density)
pins: 1 AGND (power) "Analog circuit ground (PLL and analog circuits)", 2 RCLK_R/~{F} (in) "LVTTL logic input.Low selects an RCLK falling-edge data strobe; high selects an RCLK rising-edge data strobe.", 3 REFCLK (in) "LVTTL logic input.Use this pin to supply a REFCLK signal for the internal PLL frequency.", 4 AVCC (power) "Analog circuit power supply (PLL and analog circuits)", 5 RI+ (in) "Serial data input. Noninverting LVDS differential input", 6 RI- (in) "Serial data input. Inverting LVDS differential input", 7 ~{PWRDN} (in) "LVTTL logic input. Asserting this pin low turns off the PLL and places outputs into a high-impedance state,putting the device into a low-power mode.To initiate power down,this pin is held low for a minimum of 16 nd.As long (See Datasheet)", 8 REN (in) "LVTTL logic input. Low places ROUT0-ROUT9 and RCLK in the high-impedance state.", 9 RCLK (hiz) "LVTTL level output recovered clock. Use RCLK to strobe ROUTx.", 10 ~{LOCK} (hiz) "LVTTL level output.L\O\C\K\ goes low when the deserializer PLL locks onto the embedded clock edge.", 11 AVCC (power) "Analog circuit power supply (PLL and analog circuits)", 12 AGND (power) "Analog circuit ground (PLL and analog circuits)", 13 AGND (power) "Analog circuit ground (PLL and analog circuits)", 14 DGND (power) "Digital circuit ground", 15 ROUT9 (hiz) "Parallel LVTTL data outputs", 16 ROUT8 (hiz) "Parallel LVTTL data outputs", 17 ROUT7 (hiz) "Parallel LVTTL data outputs", 18 ROUT6 (hiz) "Parallel LVTTL data outputs", 19 ROUT5 (hiz) "Parallel LVTTL data outputs", 20 DGND (power) "Digital circuit ground", 21 DVCC (power) "Digital circuit power supply", 22 DGND (power) "Digital circuit ground", 23 DVCC (power) "Digital circuit power supply", 24 ROUT4 (hiz) "Parallel LVTTL data outputs", 25 ROUT3 (hiz) "Parallel LVTTL data outputs", 26 ROUT2 (hiz) "Parallel LVTTL data outputs", 27 ROUT1 (hiz) "Parallel LVTTL data outputs", 28 ROUT0 (hiz) "Parallel LVTTL data outputs"

## SN65LV1224BMDBREP
designator U?
Enhanced Product 1:10 LVDS Serdes Receiver 100 - 660 Mbps, 3.3 V, 660 MB/s Data Throughput, 2 Receiver Channels, -55 to +125 degC, 28-pin SSOP (DB), Green (RoHS & no Sb/Br); Manufacturer: Texas Instruments; PartNumber: SN65LV1224BMDBREP; Data Throughput(MB/s): 660; ICC(mA): 80; Number of Parallel Outputs: 10; PLL Frequency(MHz): 10 - 66; Receiver (Vth)(mV): 50; Receiver tpd(ns): 8; Serial Data Receiver Channels: 2; SubFamily: LVDS Serdes (<100 MHz); Supply Voltage(s)(V): 3.3; DatasheetVersion: SGLS358; PackageVersion: revE, Dec-2001; PackageReference: DB28; PackageDescription: 28-Pin Plastic Small Outline Package, 10.2 x 5.3 mm Body, 0.65 mm Pitch; Eco-Plan: Green (RoHS & no Sb/Br); Type of Line Circuit: LVDS; Mounting Technology: Surface Mount; Code_JEDEC: MO-150; ComponentLink1Description: Datasheet; ComponentLink1URL: http://www.ti.com/general/docs/lit/getliterature.tsp?genericPartNumber=SN65LV1224B-EP&fileType=pdf; ComponentLink2Description: URL Link1; ComponentLink2URL: SamplesURL:http://www.ti.com/product/sn65lv1224b-ep#samples
footprint DB28_N (SOP, 28-Leads, Body 10.2x5.3mm, Pitch 0.65mm, IPC Medium Density)
footprint DB28_L (SOP, 28-Leads, Body 10.2x5.3mm, Pitch 0.65mm, IPC High Density)
footprint DB28_M (SOP, 28-Leads, Body 10.2x5.3mm, Pitch 0.65mm, IPC Low Density)
pins: 1 AGND (power) "Analog circuit ground (PLL and analog circuits)", 2 RCLK_R/~{F} (in) "LVTTL logic input. Low selects an PCLK falling-edge data strobe; high selects an RCLK rising-edge data strobe.", 3 REFCLK (in) "LVTTL logic input. Use this pin to supply a REFCLK signal for the internal PLL frequency.", 4 AVCC (power) "Analog circuit power supply (PLL and analog circuits)", 5 RI+ (in) "Serial data input. Noninverting LVDS differential input", 6 RI- (in) "Serial data input. Inverting LVDS differential input", 7 ~{PWRDN} (in) "LVTTL logic input. Asserting this pin low turns off the PLL and places outputs into a high-impedance state, putting the device into a low-power mode. To initiate power down, this pin is held low for a minimum of 16 ns.As (See Datasheet)", 8 REN (in) "LVTTL logic input. Low places ROUT0", 9 RCLK (hiz) "LVTTL level output recovered clock. Use RCLK to strobe ROUTx", 10 ~{LOCK} (out) "LVTTL level output.L\O\C\K\ goes low when the deserializer PLL locks onto the embedded clock edge", 11 AVCC (power) "Analog circuit power supply (PLL and analog circuits)", 12 AGND (power) "Analog circuit ground (PLL and analog circuits)", 13 AGND (power) "Analog circuit ground (PLL and analog circuits)", 14 DGND (power) "Digital circuit ground", 15 ROUT9 (hiz) "Parallel LVTTL data outputs", 16 ROUT8 (hiz) "Parallel LVTTL data outputs", 17 ROUT7 (hiz) "Parallel LVTTL data outputs", 18 ROUT6 (hiz) "Parallel LVTTL data outputs", 19 ROUT5 (hiz) "Parallel LVTTL data outputs", 20 DGND (power) "Digital circuit ground", 21 DVCC (power) "Digital circuit power supply", 22 DGND (power) "Digital circuit ground", 23 DVCC (power) "Digital circuit power supply", 24 ROUT4 (hiz) "Parallel LVTTL data outputs", 25 ROUT3 (hiz) "Parallel LVTTL data outputs", 26 ROUT2 (hiz) "Parallel LVTTL data outputs", 27 ROUT1 (hiz) "Parallel LVTTL data outputs", 28 ROUT0 (hiz) "Parallel LVTTL data outputs"

## SN65LV1224BRHBR
designator U?
1:10 LVDS Serdes Receiver 100 - 660 Mbps, 3.3 V, 660 MB/s Data Throughput, 2 Receiver Channels, -40 to +85 degC, 32-pin QFN (RHB), Green (RoHS & no Sb/Br); Manufacturer: Texas Instruments; PartNumber: SN65LV1224BRHBR; Data Throughput(MB/s): 660; ICC(mA): 80; Number of Parallel Outputs: 10; PLL Frequency(MHz): 10 - 66; Receiver (Vth)(mV): 50; Receiver tpd(ns): 8; SerDes: TRUE; Serial Data Receiver Channels: 2; SubFamily: LVDS Serdes (<100 MHz); Supply Voltage(s)(V): 3.3; DatasheetVersion: SLLS621E; PackageVersion: revD, Jun-2011; PackageReference: RHB32-3450X3450TP; PackageDescription: 32-Pin Plastic Quad Flat No-Lead, 5 x 5 mm Body, 0.5 mm Pitch, 3.45 x 3.45 mm Exposed Pad; Eco-Plan: Green (RoHS & no Sb/Br); Type of Line Circuit: LVDS; Mounting Technology: Surface Mount; Code_JEDEC: MO-220; ComponentLink1Description: Datasheet; ComponentLink1URL: http://www.ti.com/general/docs/lit/getliterature.tsp?genericPartNumber=SN65LV1224B&fileType=pdf; ComponentLink2Description: URL Link1; ComponentLink2URL: SamplesURL:http://www.ti.com/product/sn65lv1224b#samples
footprint RHB32-3450X3450TP (QFN, 32-Leads, Body 5x5mm, Pitch 0.5mm, Thermal Pad 3.45x3.45mm, TI Recommended)
pins: 1 AVCC (power) "Analog circuit power supply (PLL and analog circuits)", 2 RI+ (in) "Serial data input. Noninverting LVDS differential input", 3 RI- (in) "Serial data input. Inverting LVDS differential input", 4 ~{PWRDN} (in) "LVTTL logic input. Asserting this pin low turns off the PLL and places outputs into a high-impedance state, putting the device into a low-power mode. To initiate power down, this pin is held low for a minimum of 16 ns. As (See Datasheet)", 5 REN (in) "LVTTL logic input. Low places ROUT0-ROUT9 and RCLK in the high-impedance state.", 6 RCLK (hiz) "LVTTL level output recovered clock. Use RCLK to strobe ROUTx.", 7 ~{LOCK} (hiz) "LVTTL level output. L\O\C\K\ goes low when the deserializer PLL locks onto the embedded clock edge.", 8 AVCC (power) "Analog circuit power supply (PLL and analog circuits)", 9 AVCC (power) "Analog circuit power supply (PLL and analog circuits)", 10 AGND (power) "Analog circuit ground (PLL and analog circuits)", 11 AGND (power) "Analog circuit ground (PLL and analog circuits)", 12 DGND (power) "Digital circuit ground", 13 DGND (power) "Digital circuit ground", 14 ROUT9 (hiz) "Parallel LVTTL data output", 15 ROUT8 (hiz) "Parallel LVTTL data output", 16 ROUT7 (hiz) "Parallel LVTTL data output", 17 ROUT6 (hiz) "Parallel LVTTL data output", 18 ROUT5 (hiz) "Parallel LVTTL data output", 19 DGND (power) "Digital circuit ground", 20 DVCC (power) "Digital circuit power supply", 21 DGND (power) "Digital circuit ground", 22 DVCC (power) "Digital circuit power supply", 23 ROUT4 (hiz) "Parallel LVTTL data output", 24 ROUT3 (hiz) "Parallel LVTTL data output", 25 ROUT2 (hiz) "Parallel LVTTL data output", 26 ROUT1 (hiz) "Parallel LVTTL data output", 27 ROUT0 (hiz) "Parallel LVTTL data output", 28 AGND (power) "Analog circuit ground (PLL and analog circuits)", 29 AGND (power) "Analog circuit ground (PLL and analog circuits)", 30 AGND (power) "Analog circuit ground (PLL and analog circuits)", 31 RCLK_R/~{F} (in) "LVTTL logic input. Low selects an RCLK falling-edge data strobe; high selects an RCLK rising-edge data strobe.", 32 REFCLK (in) "LVTTL logic input. Use this pin to supply a REFCLK signal for the internal PLL frequency.", 33 EP "Exposed Thermal Pad"